# Altium footprint library MiniCircuits.PcbLib: 49 footprints (part 3 of 4)
Each footprint in its own frame and in the unit in brackets; x right, y up, seen from the top. Pads: shape width x height; smd on the part's side, far side on the other; paste and mask are expansions set on the pad; w line width, h text height; cw(c..) or ccw(c..) is an arc to the next point about the centre after c.
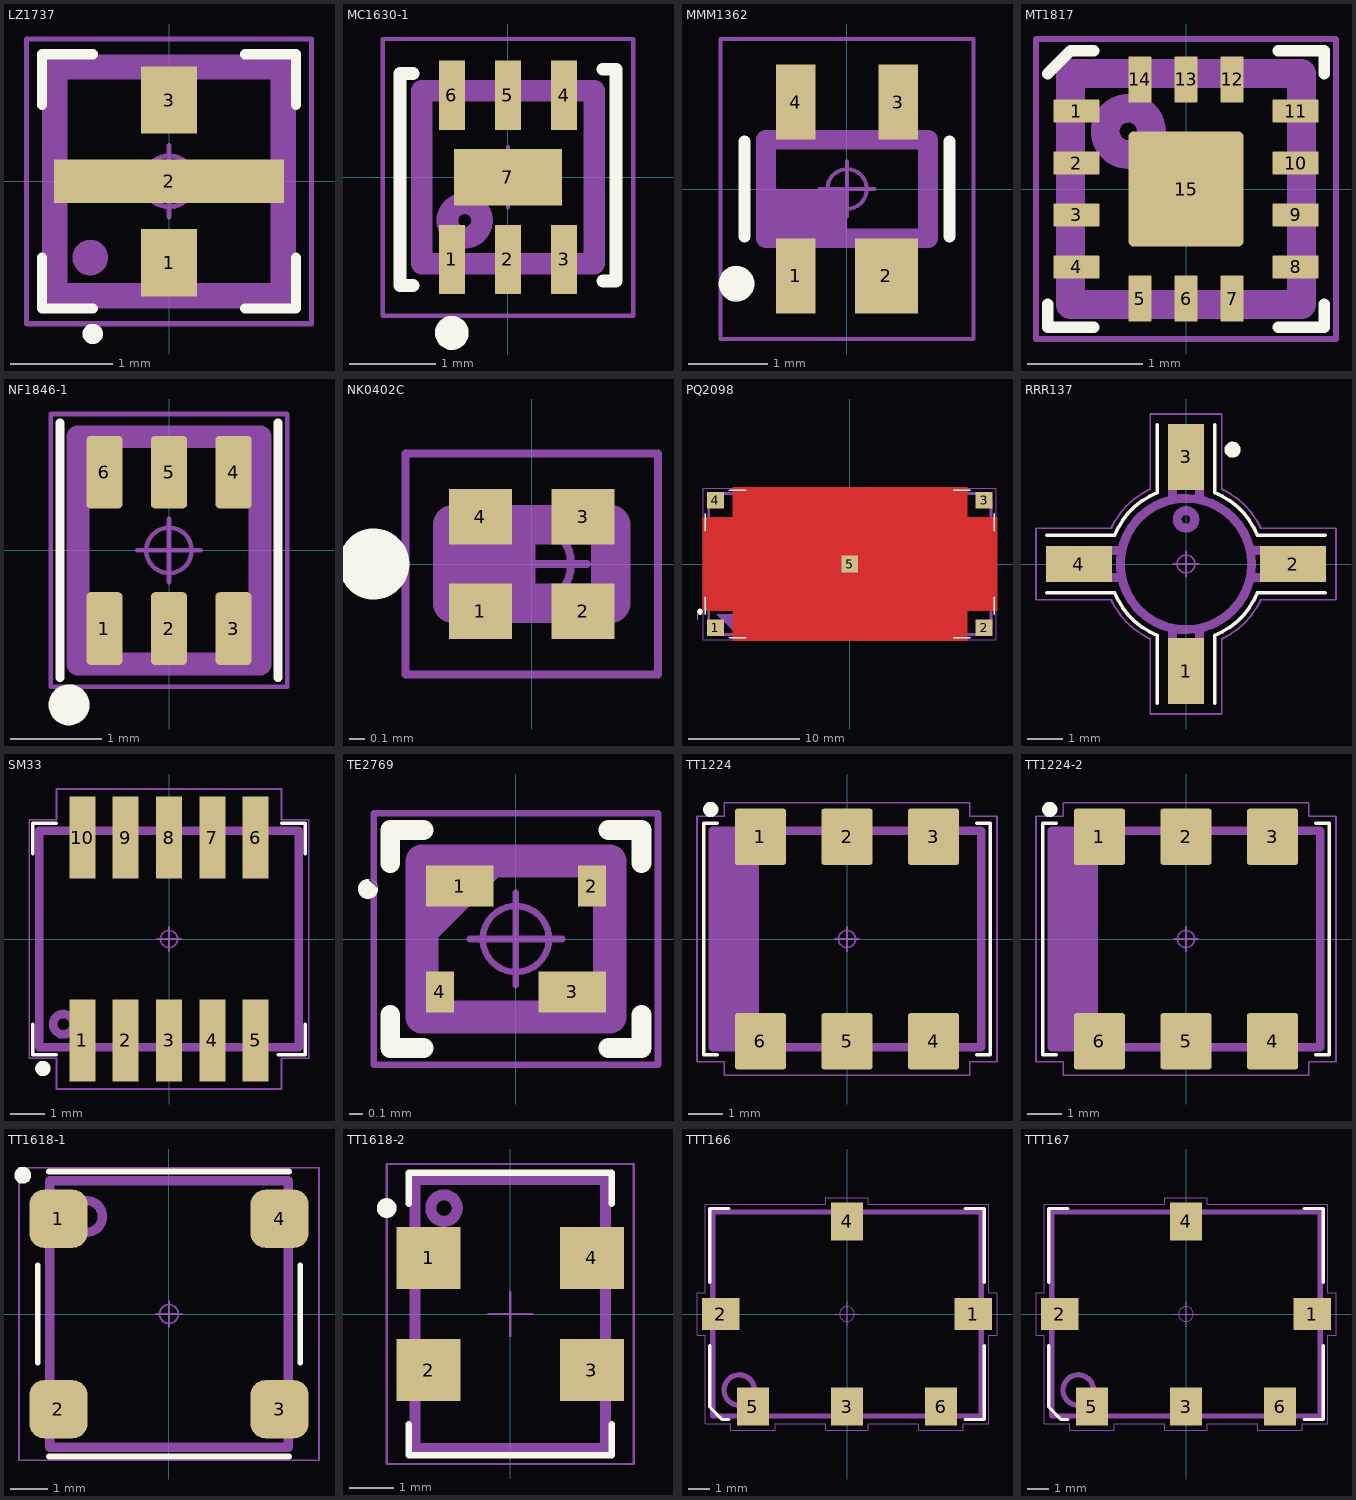
[diagram p2: the footprints below, top view; thin cyan lines are the x and y axes]

## LZ1737 [mm] "Mini-Circuits case LZ1737"
height 1.1
pads (3):
  rect 0.55x0.66 smd: 1(0,-0.8) 3(0,0.8)
  rect 2.26x0.43 smd: 2(0,0)
Top Overlay:
  circle w0.1: c-0.75,-1.5 r0.05
  lines w0.1: -1.25,-0.75 -1.25,-1.25 -0.75,-1.25 ; -1.25,0.75 -1.25,1.25 -0.75,1.25 ; 0.75,-1.25 1.25,-1.25 1.25,-0.75 ; 0.75,1.25 1.25,1.25 1.25,0.75
Top Assembly:
  circle w0.25: c-0.775,-0.75 r0.05
  lines w0.25: -1.125,-1.125 -1.125,1.125 1.125,1.125 1.125,-1.125 -1.125,-1.125
  text ".Designator" at -1.739,1.583 h1.5
Top Courtyard:
  circle w0.05: c0,0 r0.25
  lines w0.05: -0.35,0 0.35,0 ; 0,-0.35 0,0.35 ; -1.4,-1.4 -1.4,1.4 1.4,1.4 1.4,-1.4 -1.4,-1.4
3D body "CASE LZ1737.STEP": height 1.1, standoff 0, extent -1.125,-1.125 1.125,1.125

## MC1630-1 [mm] "Mini-Circuits case MC1630-1"
height 1
pads (7):
  rect 0.3x0.8 smd: 1(-0.65,-0.95) 2(0,-0.95) 3(0.65,-0.95) 4(0.65,0.95) 5(0,0.95) 6(-0.65,0.95)
  rect 1.25x0.65 smd: 7(0,0)
Top Overlay:
  circle w0.25: c-0.65,-1.8 r0.071
  lines w0.15: -1.1,-1.25 -1.25,-1.25 -1.25,1.2 -1.1,1.2 ; 1.1,-1.2 1.25,-1.2 1.25,1.25 1.1,1.25
Top Assembly:
  circle w0.25: c-0.5,-0.5 r0.2
  lines w0.25: -1,-1 1,-1 1,1 -1,1 -1,-1
  text ".Designator" at -3.378,1.611 h1.5
Top Courtyard:
  circle w0.05: c0,0 r0.25
  lines w0.05: -0.35,0 0.35,0 ; 0,-0.35 0,0.35 ; -1.45,-1.6 1.45,-1.6 1.45,1.6 -1.45,1.6 -1.45,-1.6
3D body "CASE MC1630-1.STEP": height 1, standoff 0, extent -1,-1.05 1,1.05

## MMM1362 [mm] "Mini-Circuits CASE MMM1362"
height 1.1
pads (4):
  rect 0.5x0.95 smd: 1(-0.65,-1.1) 3(0.65,1.1) 4(-0.65,1.1)
  rect 0.8x0.95 smd: 2(0.5,-1.1)
Top Overlay:
  circle w0.254: c-1.4,-1.2 r0.1
  lines w0.15: -1.3,-0.6 -1.3,0.6 ; 1.3,-0.6 1.3,0.6
Top Assembly:
  rectangle: -1.025,-0.625 0,0
  lines w0.25: -1.025,-0.625 1.025,-0.625 1.025,0.625 -1.025,0.625 -1.025,-0.625
  text ".Designator" at -3.378,1.261 h1.5
Top Courtyard:
  circle w0.05: c0,0 r0.25
  lines w0.05: -0.35,0 0.35,0 ; 0,-0.35 0,0.35 ; -1.6,-1.9 1.6,-1.9 1.6,1.9 -1.6,1.9 -1.6,-1.9
3D body "CASE MMM1362.STEP": height 1.1, standoff 0, extent -1.025,-1.05 1.025,1.05

## MT1817 [mm] "Mini-Circuits case MT1817"
height 0.55
pads (15):
  rrect10% 0.4x0.2 smd: 1(-0.95,0.675) 2(-0.95,0.225) 3(-0.95,-0.225) 4(-0.95,-0.675) 8(0.95,-0.675) 9(0.95,-0.225) 10(0.95,0.225) 11(0.95,0.675)
  rrect10% 0.2x0.4 smd: 5(-0.4,-0.95) 6(0,-0.95) 7(0.4,-0.95) 12(0.4,0.95) 13(0,0.95) 14(-0.4,0.95)
  rrect10% 1x1 smd: 15(0,0)
Top Overlay:
  lines w0.1: -1.2,-1 -1.2,-1.2 -0.8,-1.2 ; -1.2,1 -1,1.2 -0.8,1.2 ; 0.8,-1.2 1.2,-1.2 1.2,-1 ; 0.8,1.2 1.2,1.2 1.2,1
Top Assembly:
  circle w0.25: c-0.5,0.5 r0.2
  lines w0.25: -1,-1 -1,1 1,1 1,-1 -1,-1
  text ".Designator" at -1.7,1.463 h1.5
Top Courtyard:
  circle w0.05: c0,0 r0.25
  lines w0.05: -0.35,0 0.35,0 ; 0,-0.35 0,0.35 ; -1.3,-1.3 -1.3,1.3 1.3,1.3 1.3,-1.3 -1.3,-1.3
3D body "CASE MT1817.STEP": height 0.55, standoff 0, extent -1,-1 1,1

## NF1846-1 [mm] "Mini-Circuits case NF1846-1"
height 0.9
pads (6):
  rrect25% 0.4x0.8 smd: 1(-0.71,-0.86) 2(0,-0.86) 3(0.71,-0.86) 4(0.71,0.86) 5(0,0.86) 6(-0.71,0.86)
Top Overlay:
  circle w0.25: c-1.1,-1.7 r0.1
  lines w0.1: -1.2,-1.4 -1.2,1.4 ; 1.2,-1.4 1.2,1.4
Top Assembly:
  lines w0.25: -1,-1.25 -1,1.25 1,1.25 1,-1.25 -1,-1.25
  text ".Designator" at -2.185,1.83 h1.5
Top Courtyard:
  circle w0.05: c0,0 r0.25
  lines w0.05: -0.35,0 0.35,0 ; 0,-0.35 0,0.35 ; -1.3,-1.5 -1.3,1.5 1.3,1.5 1.3,-1.5 -1.3,-1.5
3D body "CASE NF1846-1.STEP": height 0.89, standoff -0.05, extent -1,-1.25 1,1.25

## NK0402C [mm] "Mini-Circuits case NK0402C"
height 3.7
pads (4):
  rect 0.4x0.35 smd: 1(-0.325,-0.3) 2(0.325,-0.3) 3(0.325,0.3) 4(-0.325,0.3)
Top Overlay:
  circle w0.25: c-1,0 r0.1
Top Assembly:
  rectangle: -0.5,-0.25 0,0.25
  lines w0.25: -0.5,-0.25 0.5,-0.25 0.5,0.25 -0.5,0.25 -0.5,-0.25
  text ".Designator" at -3.378,0.861 h1.5
Top Courtyard:
  circle w0.05: c0,0 r0.25
  lines w0.05: -0.35,0 0.35,0 ; 0,-0.35 0,0.35 ; -0.8,-0.7 0.8,-0.7 0.8,0.7 -0.8,0.7 -0.8,-0.7
3D body "CASE NK0402C.STEP": height 0.42, standoff 0, extent -0.5,-0.3 0.5,0.3

## PQ2098 [mm] "Mini-Circuits CASE PQ2098"
height 1.3
pads (5):
  rect 1.52x1.52 smd: 1(-12.09,-5.74) 2(12.09,-5.74) 3(12.09,5.74) 4(-12.09,5.74)
  rect 1.52x1.52 smd paste-2539.97 mask+0: 5(0,0)
Top Layer:
  region: -10.55,6.9 -10.55,4.2 -13.25,4.2 -13.25,-4.2 -10.55,-4.2 -10.55,-6.9 10.55,-6.9 10.55,-4.2 13.25,-4.2 13.25,4.2 10.55,4.2 10.55,6.9
Top Overlay:
  region: -13.75,-4.5 -13.75,-4.75 -13.75,-5
  region: -13.481,-4.046 -13.531,-4.046 -13.623,-4.084 -13.693,-4.154 -13.731,-4.246 -13.731,-4.296 -13.731,-4.345 -13.693,-4.437 -13.623,-4.508 -13.531,-4.546 -13.481,-4.546 -13.431,-4.546 -13.339,-4.508 -13.269,-4.437 -13.231,-4.345 -13.231,-4.296 -13.231,-4.246 -13.269,-4.154 -13.339,-4.084 -13.431,-4.046
  lines w0.15: -13,-4.5 -13,-3 ; -13,3 -13,4.5 ; -10.85,-6.65 -9.35,-6.65 ; -10.85,6.65 -9.35,6.65 ; 9.35,-6.65 10.85,-6.65 ; 9.35,6.65 10.85,6.65 ; 13,-4.5 13,-3 ; 13,3 13,4.5
Top Paste:
  region: -10.55,6.9 -10.55,4.2 -13.25,4.2 -13.25,-4.2 -10.55,-4.2 -10.55,-6.9 10.55,-6.9 10.55,-4.2 13.25,-4.2 13.25,4.2 10.55,4.2 10.55,6.9
Top Solder:
  region: -10.55,6.9 -10.55,4.2 -13.25,4.2 -13.25,-4.2 -10.55,-4.2 -10.55,-6.9 10.55,-6.9 10.55,-4.2 13.25,-4.2 13.25,4.2 10.55,4.2 10.55,6.9
Top Assembly:
  region: -12,-4.5 -10.5,-4.5 -10.5,-6
  lines w0.25: -12.7,-5.55 -11.9,-6.35 11.9,-6.35 12.7,-5.55 12.7,5.55 11.9,6.35 -11.9,6.35 -12.7,5.55 -12.7,-5.55
  text ".Designator" at -5,-0.53 h2.5
Top Courtyard:
  circle w0.05: c0,0 r0.25
  lines w0.05: -0.35,0 0.35,0 ; 0,-0.35 0,0.35 ; -13.2,-6.8 13.2,-6.8 13.2,6.8 -13.2,6.8 -13.2,-6.8
3D body "CASE PQ2098.STEP": height 1.3, standoff 0, extent -12.7,-6.35 12.7,6.35

## RRR137 [mm] "Mini-Circuits case RRR137"
height 2.8
pads (4):
  rect 1.02x1.85 smd: 1(0,-3) 3(0,3)
  rect 1.85x1.02 smd: 2(3,0) 4(-3,0)
Top Overlay:
  circle w0.25: c1.3,3.2 r0.1
  lines w0.1: -3.9,-0.8 -2,-0.8 ccw(c0,0) -0.8,-2 -0.8,-3.9 ; -3.9,0.8 -2,0.8 cw(c0,0) -0.8,2 -0.8,3.9 ; 0.8,-3.9 0.8,-2 ccw(c0,0) 2,-0.8 3.9,-0.8 ; 0.8,3.9 0.8,2 cw(c0,0) 2,0.8 3.9,0.8
Top Assembly:
  circle w0.25: c0,1.25 r0.246
  circle w0.25: c0,0 r1.84
  lines w0.25: -1.8,-0.375 -3.55,-0.375 -3.55,0.375 -1.8,0.375 ; -0.375,-1.8 -0.375,-3.55 0.375,-3.55 0.375,-1.8 ; -0.375,1.8 -0.375,3.55 0.375,3.55 0.375,1.8 ; 1.8,-0.375 3.55,-0.375 3.55,0.375 1.8,0.375
  text ".Designator" at -1.469,-0.373 h1.5
Top Courtyard:
  circle w0.05: c0,0 r0.25
  lines w0.05: -0.35,0 0.35,0 ; 0,-0.35 0,0.35 ; -4.2,-1 -2.1,-1 ccw(c0,0) -1,-2.1 -1,-4.2 1,-4.2 1,-2.1 ccw(c0,0) 2.1,-1 4.2,-1 4.2,1 2.1,1 ccw(c0,0) 1,2.1 1,4.2 -1,4.2 -1,2.1 ccw(c0,0) -2.1,1 -4.2,1 -4.2,-1
3D body "CASE RRR137.STEP": height 3.29, standoff -0.01, extent -3.56,-3.56 3.56,3.56

## SM33 [mm] "Mini-Circuits case SM33"
height 1.27
pads (10):
  rect 0.76x2.41 smd: 1(-2.54,-2.975) 2(-1.27,-2.975) 3(0,-2.975) 4(1.27,-2.975) 5(2.54,-2.975) 6(2.54,2.975) 7(1.27,2.975) 8(0,2.975) 9(-1.27,2.975) 10(-2.54,2.975)
Top Overlay:
  circle w0.25: c-3.7,-3.8 r0.1
  lines w0.1: -4,-2.5 -4,-3.4 -3.3,-3.4 ; -4,2.5 -4,3.4 -3.3,3.4 ; 3.2,-3.4 4,-3.4 4,-2.5 ; 3.3,3.4 4,3.4 4,2.5
Top Assembly:
  circle w0.25: c-3.1,-2.5 r0.3
  lines w0.25: -3.81,-3.175 -3.81,3.175 3.81,3.175 3.81,-3.175 -3.81,-3.175
  text ".Designator" at -3.368,-0.381 h1.5
Top Courtyard:
  circle w0.05: c0,0 r0.25
  lines w0.05: -0.35,0 0.35,0 ; 0,-0.35 0,0.35 ; -4.1,-3.5 -3.3,-3.5 -3.3,-4.4 3.3,-4.4 3.3,-3.5 4.1,-3.5 4.1,3.5 3.3,3.5 3.3,4.4 -3.3,4.4 -3.3,3.5 -4.1,3.5 -4.1,-3.5
3D body "CASE SM33.STEP": height 1.27, standoff 0, extent -3.81,-3.935 3.81,3.935

## TE2769 [mm] "Mini-Circuits case TE2769"
height 0.85
pads (4):
  rect 0.51x0.31 smd: 1(-0.425,0.4) 3(0.425,-0.4)
  rect 0.21x0.31 smd: 2(0.575,0.4) 4(-0.575,-0.4)
Top Overlay:
  region: -1.044,0.379 -1.044,0.364 -1.056,0.336 -1.077,0.315 -1.104,0.304 -1.119,0.304 -1.134,0.304 -1.162,0.315 -1.183,0.336 -1.194,0.364 -1.194,0.379 -1.194,0.394 -1.183,0.421 -1.162,0.442 -1.134,0.454 -1.119,0.454 -1.104,0.454 -1.077,0.442 -1.056,0.421 -1.044,0.394 -1.044,0.379 -1.119,0.454 -1.104,0.454 -1.077,0.442 -1.056,0.421 -1.044,0.394 -1.044,0.379
  lines w0.15: -0.95,-0.575 -0.95,-0.825 -0.7,-0.825 ; -0.95,0.575 -0.95,0.825 -0.7,0.825 ; 0.7,-0.825 0.95,-0.825 0.95,-0.575 ; 0.7,0.825 0.95,0.825 0.95,0.575
Top Assembly:
  region: -0.7,0.6 0,0.6 -0.7,-0.1
  lines w0.25: -0.71,-0.59 -0.71,0.59 0.71,0.59 0.71,-0.59 -0.71,-0.59
  text ".Designator" at -0.3,-0.218 h1.5
Top Courtyard:
  circle w0.05: c0,0 r0.25
  lines w0.05: -0.35,0 0.35,0 ; 0,-0.35 0,0.35 ; -1.075,-0.95 1.075,-0.95 1.075,0.95 -1.075,0.95 -1.075,-0.95
3D body "CASE TE2769.STEP": height 0.85, standoff 0, extent -0.71,-0.59 0.71,0.59

## TT1224 [mm] "Mini-Circuits case TT1224"
height 4.06
pads (6):
  rrect10% 1.5x1.65 smd: 1(-2.54,3) 2(0,3) 3(2.54,3) 4(2.54,-3) 5(0,-3) 6(-2.54,-3)
Top Overlay:
  circle w0.25: c-4,3.8 r0.1
  lines w0.1: -3.8,-3.4 -4.2,-3.4 -4.2,3.4 -3.8,3.4 ; 3.8,-3.4 4.2,-3.4 4.2,3.4 3.8,3.4
Top Assembly:
  rectangle: -3.931,-3.175 -2.584,3.175
  lines w0.25: -3.935,-3.175 3.935,-3.175 3.935,3.175 -3.935,3.175 -3.935,-3.175
  text ".Designator" at -3.391,-0.36 h1.5
Top Courtyard:
  circle w0.05: c0,0 r0.25
  lines w0.05: -0.35,0 0.35,0 ; 0,-0.35 0,0.35 ; -4.4,-3.6 -3.6,-3.6 -3.6,-4 3.6,-4 3.6,-3.6 4.4,-3.6 4.4,3.6 3.6,3.6 3.6,4 -3.6,4 -3.6,3.6 -4.4,3.6 -4.4,-3.6
3D body "CASE TT1224.STEP": height 4.06, standoff -0.05, extent -3.935,-3.175 3.935,3.175

## TT1224-2 [mm] "Mini-Circuits case TT1224-2"
height 4.06
pads (6):
  rrect10% 1.5x1.65 smd: 1(-2.54,3) 2(0,3) 3(2.54,3) 4(2.54,-3) 5(0,-3) 6(-2.54,-3)
Top Overlay:
  circle w0.25: c-4,3.8 r0.1
  lines w0.1: -3.8,-3.4 -4.2,-3.4 -4.2,3.4 -3.8,3.4 ; 3.8,-3.4 4.2,-3.4 4.2,3.4 3.8,3.4
Top Assembly:
  rectangle: -3.931,-3.175 -2.584,3.175
  lines w0.25: -3.935,-3.175 3.935,-3.175 3.935,3.175 -3.935,3.175 -3.935,-3.175
  text ".Designator" at -3.391,-0.36 h1.5
Top Courtyard:
  circle w0.05: c0,0 r0.25
  lines w0.05: -0.35,0 0.35,0 ; 0,-0.35 0,0.35 ; -4.4,-3.6 -3.6,-3.6 -3.6,-4 3.6,-4 3.6,-3.6 4.4,-3.6 4.4,3.6 3.6,3.6 3.6,4 -3.6,4 -3.6,3.6 -4.4,3.6 -4.4,-3.6
3D body "CASE TT1224-2.STEP": height 4.06, standoff -0.05, extent -3.935,-3.175 3.935,3.175

## TT1618-1 [mm] "Mini-Circuits case TT1618-1"
height 4.06
pads (4):
  rrect50% 1.55x1.55 smd: 1(-2.95,2.54) 2(-2.95,-2.54) 3(2.95,-2.54) 4(2.95,2.54)
Top Overlay:
  circle w0.25: c-3.9,3.7 r0.1
  lines w0.15: -3.5,-1.3 -3.5,1.3 ; -3.2,-3.8 3.2,-3.8 ; -3.2,3.8 3.2,3.8 ; 3.5,-1.3 3.5,1.3
Top Assembly:
  circle w0.25: c-2.2,2.6 r0.424
  lines w0.25: -3.175,-3.555 3.175,-3.555 3.175,3.555 -3.175,3.555 -3.175,-3.555
  text ".Designator" at -2.4,-0.63 h2.5
Top Courtyard:
  circle w0.05: c0,0 r0.25
  lines w0.05: -0.35,0 0.35,0 ; 0,-0.35 0,0.35 ; -4,-3.9 4,-3.9 4,3.9 -4,3.9 -4,-3.9
3D body "CASE TT1618-1.STEP": height 4.06, standoff 0, extent -3.175,-3.555 3.175,3.555

## TT1618-2 [mm] "Mini-Circuits CASE TT1618-2"
height 4.06
pads (4):
  rect 1.45x1.4 smd: 1(-1.85,1.27) 2(-1.85,-1.27) 3(1.85,-1.27) 4(1.85,1.27)
Top Overlay:
  circle w0.25: c-2.8,2.4 r0.1
  lines w0.15: -2.3,-2.5 -2.3,-3.2 2.3,-3.2 2.3,-2.5 ; -2.3,2.5 -2.3,3.2 2.3,3.2 2.3,2.5
Top Assembly:
  circle w0.25: c-1.5,2.4 r0.3
  lines w0.25: -2.16,-3.05 2.16,-3.05 2.16,3.05 -2.16,3.05 -2.16,-3.05
  text ".Designator" at -1.8,-0.418 h1.5
Top Courtyard:
  lines w0.05: -0.5,0 0.5,0 ; 0,-0.5 0,0.5 ; -2.8,-3.4 -2.8,3.4 2.8,3.4 2.8,-3.4 -2.8,-3.4
3D body "CASE TT1618-2.STEP": height 4.06, standoff 0, extent -2.16,-3.05 2.16,3.05

## TTT166 [mm] "Mini-Circuits case TTT165"
height 3.81
pads (6):
  rect 1.78x1.52 smd: 1(5.97,0) 2(-5.97,0)
  rect 1.52x1.78 smd: 3(0,-4.38) 4(0,4.38) 5(-4.45,-4.38) 6(4.45,-4.38)
Top Overlay:
  lines w0.15: -6.5,-1.5 -6.5,-4.4 -5.9,-5 -5.6,-5 ; -6.5,1.5 -6.5,5 -5.6,5 ; 5.6,-5 6.5,-5 6.5,-1.5 ; 5.6,5 6.5,5 6.5,1.5
Top Assembly:
  circle w0.25: c-5.1,-3.6 r0.72
  lines w0.25: -6.35,-4.825 -6.35,4.825 6.35,4.825 6.35,-4.825 -6.35,-4.825
  text ".Designator" at -3.1,-0.318 h1.5
Top Courtyard:
  circle w0.05: c0,0 r0.35
  lines w0.05: -0.6,0 0.6,0 ; 0,-0.6 0,0.6 ; -7.1,-1 -7.1,1 -6.7,1 -6.7,5.2 -1,5.2 -1,5.5 1,5.5 1,5.2 6.7,5.2 6.7,1 7.1,1 7.1,-1 6.7,-1 6.7,-5.2 5.5,-5.2 5.5,-5.5 3.4,-5.5 3.4,-5.2 1,-5.2 1,-5.5 -1,-5.5 -1,-5.2 -3.4,-5.2 -3.4,-5.5 -5.5,-5.5 -5.5,-5.2 -6.7,-5.2 -6.7,-1 -7.1,-1
3D body "CASE TTT166.STEP": height 3.81, standoff 0, extent -6.35,-4.825 6.35,4.825

## TTT167 [mm] "Mini-Circuits case TTT167"
height 5.84
pads (6):
  rect 1.78x1.52 smd: 1(5.97,0) 2(-5.97,0)
  rect 1.52x1.78 smd: 3(0,-4.38) 4(0,4.38) 5(-4.45,-4.38) 6(4.45,-4.38)
Top Overlay:
  lines w0.15: -6.5,-1.5 -6.5,-4.4 -5.9,-5 -5.6,-5 ; -6.5,1.5 -6.5,5 -5.6,5 ; 5.6,-5 6.5,-5 6.5,-1.5 ; 5.6,5 6.5,5 6.5,1.5
Top Assembly:
  circle w0.25: c-5.1,-3.6 r0.72
  lines w0.25: -6.35,-4.825 -6.35,4.825 6.35,4.825 6.35,-4.825 -6.35,-4.825
  text ".Designator" at -3.1,-0.318 h1.5
Top Courtyard:
  circle w0.05: c0,0 r0.35
  lines w0.05: -0.6,0 0.6,0 ; 0,-0.6 0,0.6 ; -7.1,-1 -7.1,1 -6.7,1 -6.7,5.2 -1,5.2 -1,5.5 1,5.5 1,5.2 6.7,5.2 6.7,1 7.1,1 7.1,-1 6.7,-1 6.7,-5.2 5.5,-5.2 5.5,-5.5 3.4,-5.5 3.4,-5.2 1,-5.2 1,-5.5 -1,-5.5 -1,-5.2 -3.4,-5.2 -3.4,-5.5 -5.5,-5.5 -5.5,-5.2 -6.7,-5.2 -6.7,-1 -7.1,-1
3D body "CASE TTT167.STEP": height 5.84, standoff 0, extent -6.35,-4.825 6.35,4.825